# EAGLE library part STC8G1K08A_KXN (library kxn_Standard_MCU)
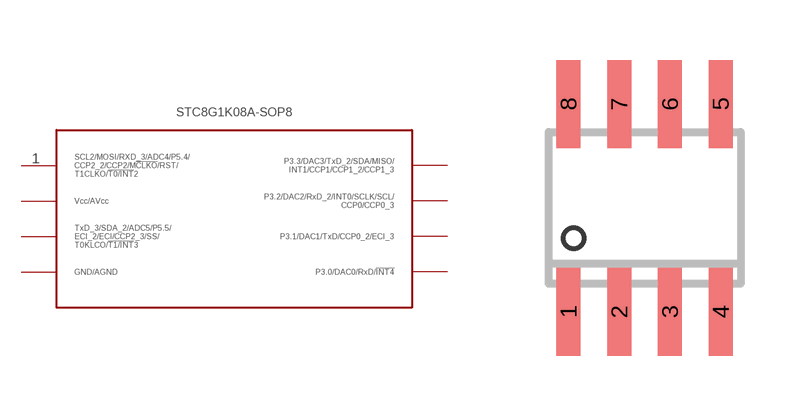
[diagram p9: symbol with the pads of KXN_STANDARD_SOP8; footprint KXN_STANDARD_SOP8]

Designator prefix -

## STC8G1K08A_KXN_1  [KXN_STANDARD_SOP8]
1  P$1_P5.4
2  P$2_VCC  pwr
3  P$3_P5.5
4  P$4_GND  pas
5  P$5_3.0
6  P$6_3.1
7  P$7_3.2
8  P$8_3.3

## Footprint KXN_STANDARD_SOP8 (pad centres in mm)
smd 0.6 x 2.2: 1 -1.905,-2.6; 2 -0.635,-2.6; 3 0.635,-2.6; 4 1.905,-2.6; 5 1.905,2.6; 6 0.635,2.6; 7 -0.635,2.6; 8 -1.905,2.6